# EAGLE library part PIC24FJ128GA006- (library MinotaurParts)
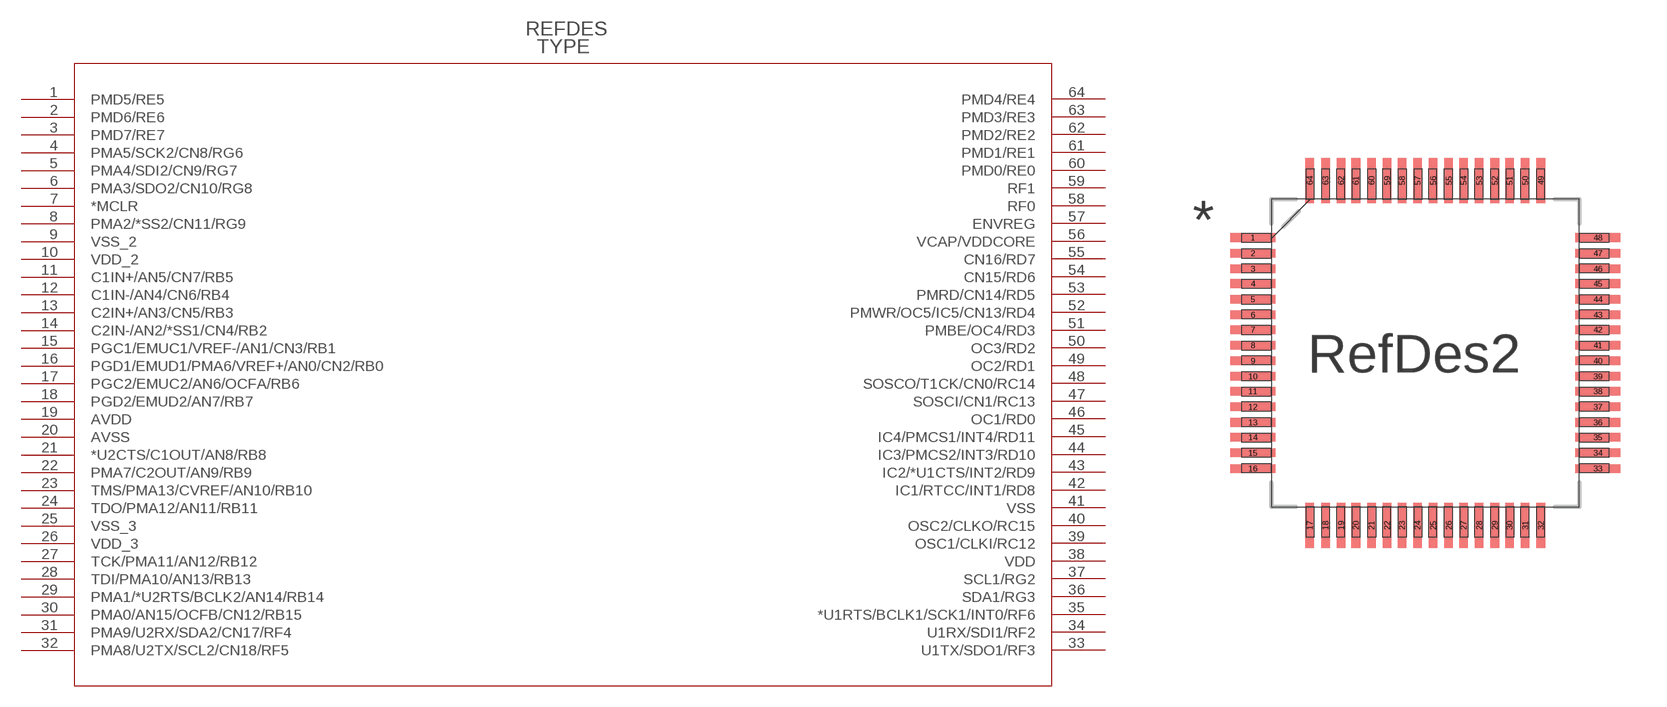
[diagram p2: symbol with the pads of TQFP64_10X10MC; footprint TQFP64_10X10MC]

Designator prefix -

## PIC24FJ128GA006-  [TQFP64_10X10MC]
1  PMD5/RE5  pas
2  PMD6/RE6  pas
3  PMD7/RE7  pas
4  PMA5/SCK2/CN8/RG6  pas
5  PMA4/SDI2/CN9/RG7  pas
6  PMA3/SDO2/CN10/RG8  pas
7  *MCLR  pas
8  PMA2/*SS2/CN11/RG9  pas
9  VSS_2  pas
10  VDD_2  pas
11  C1IN+/AN5/CN7/RB5  pas
12  C1IN-/AN4/CN6/RB4  pas
13  C2IN+/AN3/CN5/RB3  pas
14  C2IN-/AN2/*SS1/CN4/RB2  pas
15  PGC1/EMUC1/VREF-/AN1/CN3/RB1  pas
16  PGD1/EMUD1/PMA6/VREF+/AN0/CN2/RB0  pas
17  PGC2/EMUC2/AN6/OCFA/RB6  pas
18  PGD2/EMUD2/AN7/RB7  pas
19  AVDD  pas
20  AVSS  pas
21  *U2CTS/C1OUT/AN8/RB8  pas
22  PMA7/C2OUT/AN9/RB9  pas
23  TMS/PMA13/CVREF/AN10/RB10  pas
24  TDO/PMA12/AN11/RB11  pas
25  VSS_3  pas
26  VDD_3  pas
27  TCK/PMA11/AN12/RB12  pas
28  TDI/PMA10/AN13/RB13  pas
29  PMA1/*U2RTS/BCLK2/AN14/RB14  pas
30  PMA0/AN15/OCFB/CN12/RB15  pas
31  PMA9/U2RX/SDA2/CN17/RF4  pas
32  PMA8/U2TX/SCL2/CN18/RF5  pas
33  U1TX/SDO1/RF3  pas
34  U1RX/SDI1/RF2  pas
35  *U1RTS/BCLK1/SCK1/INT0/RF6  pas
36  SDA1/RG3  pas
37  SCL1/RG2  pas
38  VDD  pas
39  OSC1/CLKI/RC12  pas
40  OSC2/CLKO/RC15  pas
41  VSS  pas
42  IC1/RTCC/INT1/RD8  pas
43  IC2/*U1CTS/INT2/RD9  pas
44  IC3/PMCS2/INT3/RD10  pas
45  IC4/PMCS1/INT4/RD11  pas
46  OC1/RD0  pas
47  SOSCI/CN1/RC13  pas
48  SOSCO/T1CK/CN0/RC14  pas
49  OC2/RD1  pas
50  OC3/RD2  pas
51  PMBE/OC4/RD3  pas
52  PMWR/OC5/IC5/CN13/RD4  pas
53  PMRD/CN14/RD5  pas
54  CN15/RD6  pas
55  CN16/RD7  pas
56  VCAP/VDDCORE  pas
57  ENVREG  pas
58  RF0  pas
59  RF1  pas
60  PMD0/RE0  pas
61  PMD1/RE1  pas
62  PMD2/RE2  pas
63  PMD3/RE3  pas
64  PMD4/RE4  pas

## Footprint TQFP64_10X10MC (pad centres in mm)
smd 1.473 x 0.279: 1 -5.613,3.759; 2 -5.613,3.251; 3 -5.613,2.743; 4 -5.613,2.261; 5 -5.613,1.753; 6 -5.613,1.245; 7 -5.613,0.762; 8 -5.613,0.254; 9 -5.613,-0.254; 10 -5.613,-0.762; 11 -5.613,-1.245; 12 -5.613,-1.753; 13 -5.613,-2.261; 14 -5.613,-2.743; 15 -5.613,-3.251; 16 -5.613,-3.759; 33 5.613,-3.759; 34 5.613,-3.251; 35 5.613,-2.743; 36 5.613,-2.261; 37 5.613,-1.753; 38 5.613,-1.245; 39 5.613,-0.762; 40 5.613,-0.254; 41 5.613,0.254; 42 5.613,0.762; 43 5.613,1.245; 44 5.613,1.753; 45 5.613,2.261; 46 5.613,2.743; 47 5.613,3.251; 48 5.613,3.759
smd 0.279 x 1.473: 17 -3.759,-5.613; 18 -3.251,-5.613; 19 -2.743,-5.613; 20 -2.261,-5.613; 21 -1.753,-5.613; 22 -1.245,-5.613; 23 -0.762,-5.613; 24 -0.254,-5.613; 25 0.254,-5.613; 26 0.762,-5.613; 27 1.245,-5.613; 28 1.753,-5.613; 29 2.261,-5.613; 30 2.743,-5.613; 31 3.251,-5.613; 32 3.759,-5.613; 49 3.759,5.613; 50 3.251,5.613; 51 2.743,5.613; 52 2.261,5.613; 53 1.753,5.613; 54 1.245,5.613; 55 0.762,5.613; 56 0.254,5.613; 57 -0.254,5.613; 58 -0.762,5.613; 59 -1.245,5.613; 60 -1.753,5.613; 61 -2.261,5.613; 62 -2.743,5.613; 63 -3.251,5.613; 64 -3.759,5.613